# Altium footprint library FA128.PcbLib: 1 footprints
Each footprint in its own frame and in the unit in brackets; x right, y up, seen from the top. Pads: shape width x height; smd on the part's side, far side on the other; paste and mask are expansions set on the pad; w line width, h text height; cw(c..) or ccw(c..) is an arc to the next point about the centre after c.
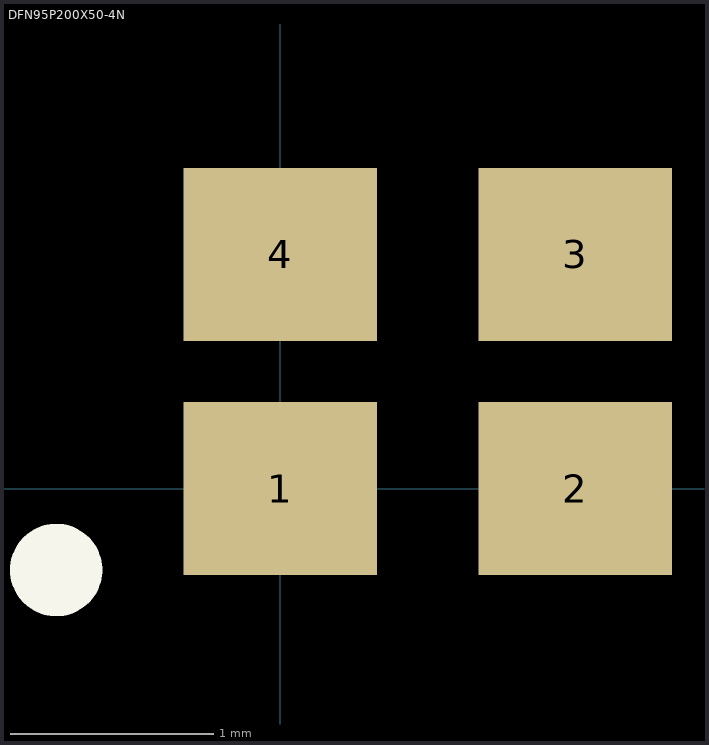
[diagram p0: the footprint, top view; thin cyan lines are the x and y axes]

## DFN95P200X50-4N [mm] "DFN, 4-Leads, Body 1.60x2.00mm, Pitch 0.95mm, IPC Medium Density"
height 0.5
pads (4):
  rect 0.95x0.85 smd: 1(0,0) 2(1.45,0) 3(1.45,1.15) 4(0,1.15)
Top Overlay:
  circle w0.254: c-1.1,-0.4 r0.1
3D body: height 0.5, standoff 0, extent -0.577,-0.527 2.027,1.677